# EAGLE library part AD5452-DIL8 (library yb-library)
AD5452YRMZ on DIL-8-Adapter
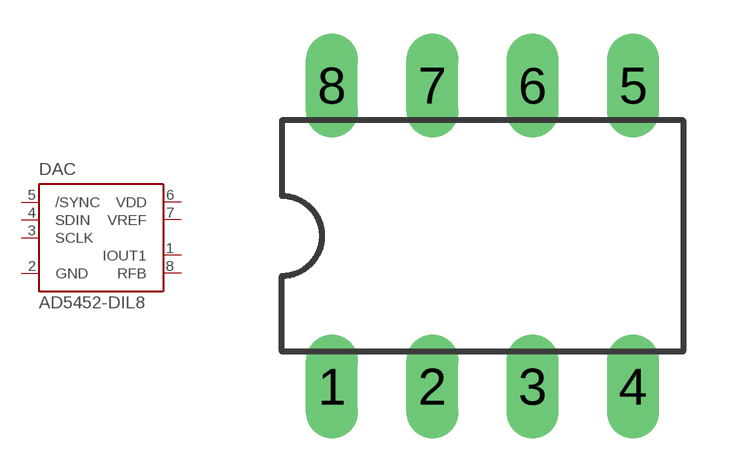
[diagram p6: symbol with the pads of DIL08; footprint DIL08]

Designator prefix DAC

## AD5452-DIL8  [DIL08]
1  IOUT1  out
2  GND  pwr
3  SCLK  in
4  SDIN  in
5  /SYNC  in
6  VDD  pwr
7  VREF  pwr
8  RFB  pas

## Footprint DIL08 (pad centres in mm)
Dual In Line Package
drill 0.813 long: 1 -3.81,-3.81; 2 -1.27,-3.81; 3 1.27,-3.81; 4 3.81,-3.81; 5 3.81,3.81; 6 1.27,3.81; 7 -1.27,3.81; 8 -3.81,3.81